# EAGLE library part UBLOX_SARA_U2 (library ublox)
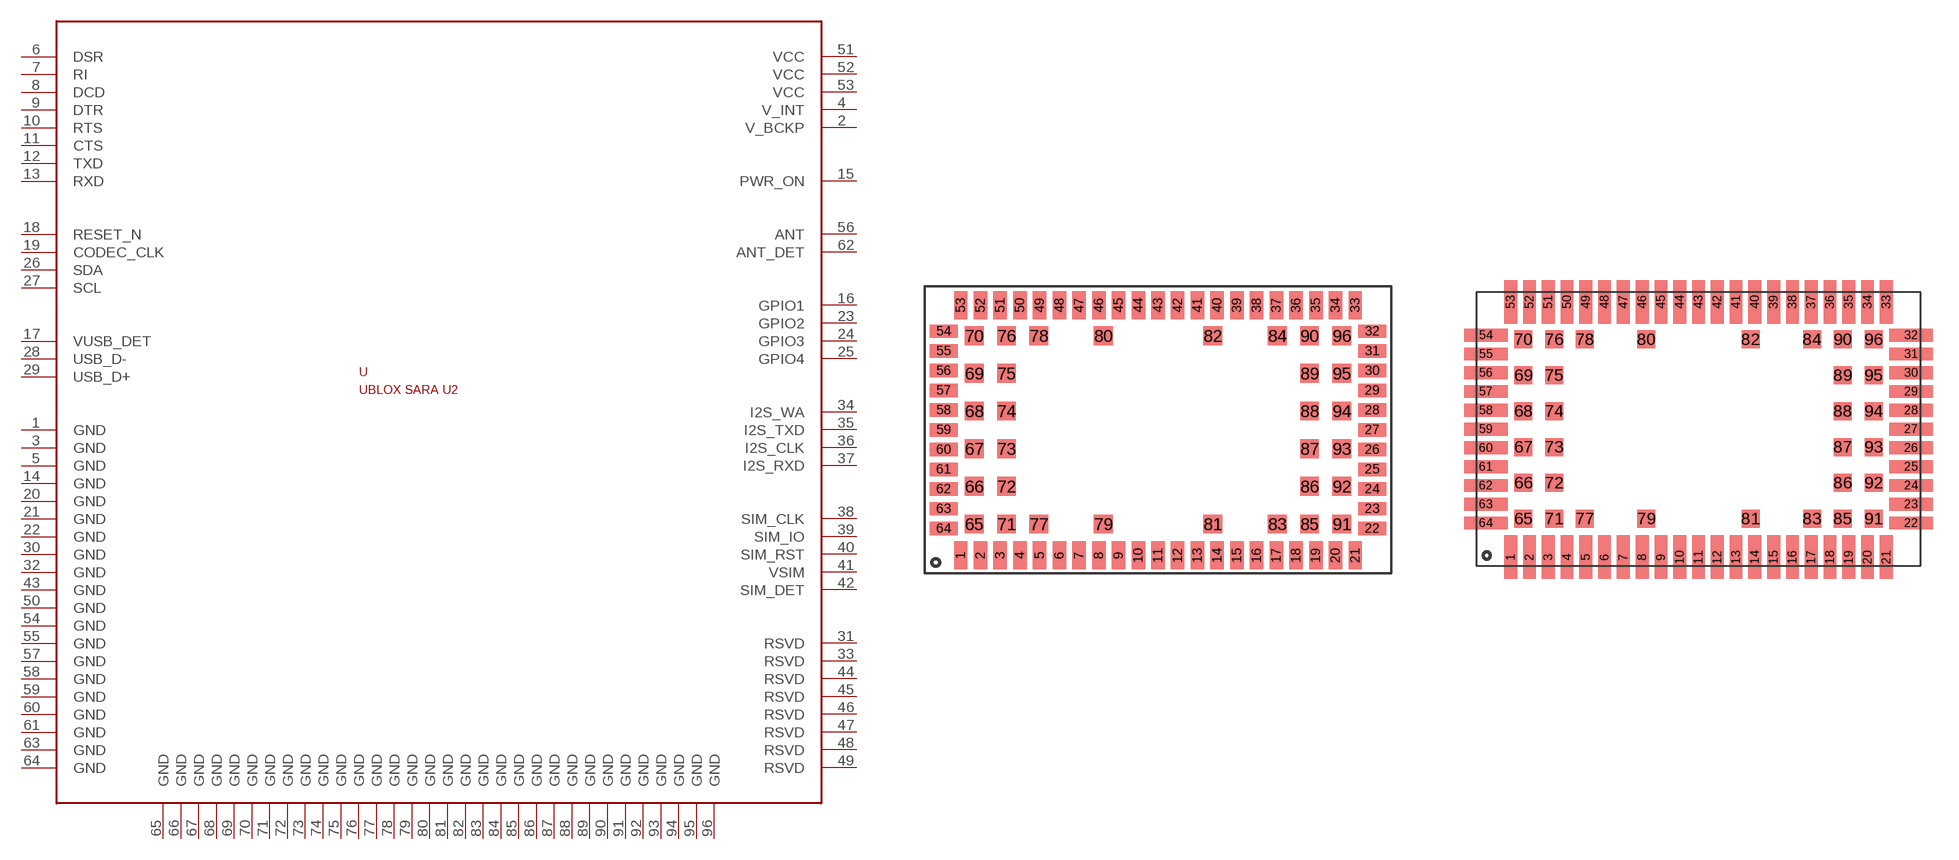
[diagram p0: symbol with the pads of SARA-U2; footprints SARA-U2, SARA-U2_EXTENDED_PADS]

Designator prefix -

## UBLOX_SARA_U2STANDARD  [SARA-U2]
1  GND
2  V_BCKP
3  GND
4  V_INT
5  GND
6  DSR
7  RI
8  DCD
9  DTR
10  RTS
11  CTS
12  TXD
13  RXD
14  GND
15  PWR_ON
16  GPIO1
17  VUSB_DET
18  RESET_N
19  CODEC_CLK
20  GND
21  GND
22  GND
23  GPIO2
24  GPIO3
25  GPIO4
26  SDA
27  SCL
28  USB_D-
29  USB_D+
30  GND
31  RSVD
32  GND
33  RSVD
34  I2S_WA
35  I2S_TXD
36  I2S_CLK
37  I2S_RXD
38  SIM_CLK
39  SIM_IO
40  SIM_RST
41  VSIM
42  SIM_DET
43  GND
44  RSVD
45  RSVD
46  RSVD
47  RSVD
48  RSVD
49  RSVD
50  GND
51  VCC
52  VCC
53  VCC
54  GND
55  GND
56  ANT
57  GND
58  GND
59  GND
60  GND
61  GND
62  ANT_DET
63  GND
64  GND
65  GND
66  GND
67  GND
68  GND
69  GND
70  GND
71  GND
72  GND
73  GND
74  GND
75  GND
76  GND
77  GND
78  GND
79  GND
80  GND
81  GND
82  GND
83  GND
84  GND
85  GND
86  GND
87  GND
88  GND
89  GND
90  GND
91  GND
92  GND
93  GND
94  GND
95  GND
96  GND

## UBLOX_SARA_U2  [SARA-U2_EXTENDED_PADS]
Pads as for SARA-U2

## Footprint SARA-U2 (pad centres in mm)
smd 0.75 x 1.55: 1 2,1; 2 3.1,1; 3 4.2,1; 4 5.3,1; 5 6.4,1; 6 7.5,1; 7 8.6,1; 8 9.7,1; 9 10.8,1; 10 11.9,1; 11 13,1; 12 14.1,1; 13 15.2,1; 14 16.3,1; 15 17.4,1; 16 18.5,1; 17 19.6,1; 18 20.7,1; 19 21.8,1; 20 22.9,1; 21 24,1; 33 24,14.95; 34 22.9,14.95; 35 21.8,14.95; 36 20.7,14.95; 37 19.6,14.95; 38 18.5,14.95; 39 17.4,14.95; 40 16.3,14.95; 41 15.2,14.95; 42 14.1,14.95; 43 13,14.95; 44 11.9,14.95; 45 10.8,14.95; 46 9.7,14.95; 47 8.6,14.95; 48 7.5,14.95; 49 6.4,14.95; 50 5.3,14.95; 51 4.2,14.95; 52 3.1,14.95; 53 2,14.95
smd 1.55 x 0.75: 22 24.95,2.5; 23 24.95,3.6; 24 24.95,4.7; 25 24.95,5.8; 26 24.95,6.9; 27 24.95,8; 28 24.95,9.1; 29 24.95,10.2; 30 24.95,11.3; 31 24.95,12.4; 32 24.95,13.5; 54 1.05,13.5; 55 1.05,12.4; 56 1.05,11.3; 57 1.05,10.2; 58 1.05,9.1; 59 1.05,8; 60 1.05,6.9; 61 1.05,5.8; 62 1.05,4.7; 63 1.05,3.6; 64 1.05,2.5
smd 1.05 x 1.05: 65 2.75,2.75; 66 2.75,4.85; 67 2.75,6.95; 68 2.75,9.05; 69 2.75,11.15; 70 2.75,13.25; 71 4.55,2.75; 72 4.55,4.85; 73 4.55,6.95; 74 4.55,9.05; 75 4.55,11.15; 76 4.55,13.25; 77 6.35,2.75; 78 6.35,13.25; 79 9.95,2.75; 80 9.95,13.25; 81 16.05,2.75; 82 16.05,13.25; 83 19.65,2.75; 84 19.65,13.25; 85 21.45,2.75; 86 21.45,4.85; 87 21.45,6.95; 88 21.45,9.05; 89 21.45,11.15; 90 21.45,13.25; 91 23.25,2.75; 92 23.25,4.85; 93 23.25,6.95; 94 23.25,9.05; 95 23.25,11.15; 96 23.25,13.25

## Footprint SARA-U2_EXTENDED_PADS (pad centres in mm)
smd 0.75 x 2.55: 1 2,0.5; 2 3.1,0.5; 3 4.2,0.5; 4 5.3,0.5; 5 6.4,0.5; 6 7.5,0.5; 7 8.6,0.5; 8 9.7,0.5; 9 10.8,0.5; 10 11.9,0.5; 11 13,0.5; 12 14.1,0.5; 13 15.2,0.5; 14 16.3,0.5; 15 17.4,0.5; 16 18.5,0.5; 17 19.6,0.5; 18 20.7,0.5; 19 21.8,0.5; 20 22.9,0.5; 21 24,0.5; 33 24,15.45; 34 22.9,15.45; 35 21.8,15.45; 36 20.7,15.45; 37 19.6,15.45; 38 18.5,15.45; 39 17.4,15.45; 40 16.3,15.45; 41 15.2,15.45; 42 14.1,15.45; 43 13,15.45; 44 11.9,15.45; 45 10.8,15.45; 46 9.7,15.45; 47 8.6,15.45; 48 7.5,15.45; 49 6.4,15.45; 50 5.3,15.45; 51 4.2,15.45; 52 3.1,15.45; 53 2,15.45
smd 2.55 x 0.75: 22 25.45,2.5; 23 25.45,3.6; 24 25.45,4.7; 25 25.45,5.8; 26 25.45,6.9; 27 25.45,8; 28 25.45,9.1; 29 25.45,10.2; 30 25.45,11.3; 31 25.45,12.4; 32 25.45,13.5; 54 0.55,13.5; 55 0.55,12.4; 56 0.55,11.3; 57 0.55,10.2; 58 0.55,9.1; 59 0.55,8; 60 0.55,6.9; 61 0.55,5.8; 62 0.55,4.7; 63 0.55,3.6; 64 0.55,2.5
smd 1.05 x 1.05: 65 2.75,2.75; 66 2.75,4.85; 67 2.75,6.95; 68 2.75,9.05; 69 2.75,11.15; 70 2.75,13.25; 71 4.55,2.75; 72 4.55,4.85; 73 4.55,6.95; 74 4.55,9.05; 75 4.55,11.15; 76 4.55,13.25; 77 6.35,2.75; 78 6.35,13.25; 79 9.95,2.75; 80 9.95,13.25; 81 16.05,2.75; 82 16.05,13.25; 83 19.65,2.75; 84 19.65,13.25; 85 21.45,2.75; 86 21.45,4.85; 87 21.45,6.95; 88 21.45,9.05; 89 21.45,11.15; 90 21.45,13.25; 91 23.25,2.75; 92 23.25,4.85; 93 23.25,6.95; 94 23.25,9.05; 95 23.25,11.15; 96 23.25,13.25